# EAGLE library part LTC3535 (library PowerProducts)
LT-Spice library generated with : ltspice.ulp from: D:/Program Files (x86)/LTC/LTspiceIV/lib/sym/PowerProducts/LTC3537*.asy at 07.10.2012 18:16:16
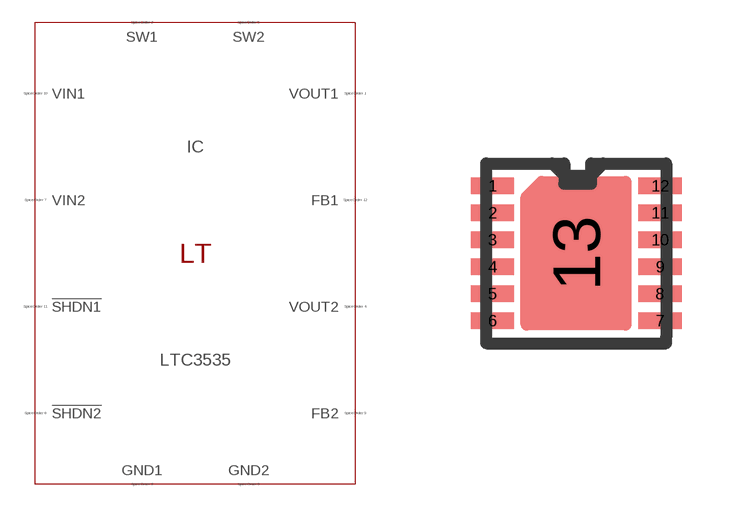
[diagram p225: symbol with the pads of DFN12(DD); footprint DFN12(DD)]

Designator prefix IC

## LTC3535 (SPICEMODEL: LTC3535.sub; SPICEPREFIX: X; VALUE2: LTC3535)  [DFN12(DD)]
1  VOUT1  pas
2  SW1  pas
3  GND1  pas
4  VOUT2  pas
5  SW2  pas
6  GND2  pas
7  VIN2  pas
8  !SHDN2  pas
9  FB2  pas
10  VIN1  pas
11  !SHDN1  pas
12  FB1  pas
13  GND1  pas

## Footprint DFN12(DD) (pad centres in mm)
Package generated from: DFN12(DD).asc (!PADS-POWERPCB-V9.3-BASIC! DESIGN DATABASE ASCII FILE 1.0) with :import-pads-powerpcb-v5.ulp Version 1.0.1 at 04.10.2012 14:11:16
smd 1.087 x 0.412: 1 -2.096,1.688; 2 -2.096,1.012; 3 -2.096,0.338; 4 -2.096,-0.338; 5 -2.096,-1.012; 6 -2.096,-1.688; 7 2.096,-1.688; 8 2.096,-1.012; 9 2.096,-0.338; 10 2.096,0.338; 11 2.096,1.012; 12 2.096,1.688
smd 2.475 x 2.7: 13 0,0